# Altium schematic symbol library Regulator.SchLib: 3 symbols
Pins are listed as number, name and electrical type; pins without a type are passive.

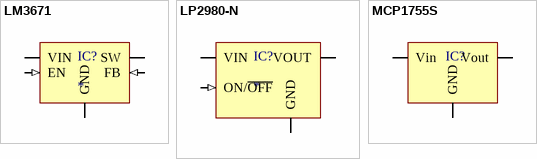
[diagram p0: symbols LM3671 to MCP1755S]

## LM3671
designator IC?
2MHz, 600mA step-down converter
footprint SOT23-5_N (SOT23, 5-Leads, Body 1.6x3mm, Lead Span 3mm, IPC Medium Density)
pins: 1 VIN (power), 2 GND (power), 3 EN (in), 4 FB (in), 5 SW (power)

## LP2980-N
designator IC?
50 mA, ultra low drop-out voltage regulator
footprint SOT23-5_N (SOT23, 5-Leads, Body 1.6x3mm, Lead Span 3mm, IPC Medium Density)
pins: 1 VIN (power), 2 GND (power), 3 ON/~{OFF} (in), 5 VOUT (power)

## MCP1755S
designator IC?
3.3V linear voltage regulator
footprint SOT223_M (SOT223, 4-Leads, Body 6.5x3.5mm, Pitch 2.3mm, Lead Span 7mm, IPC Low Density)
pins: 1 Vin, 2 GND, 3 Vout